# EAGLE library part CON04X2 (library Connectors)
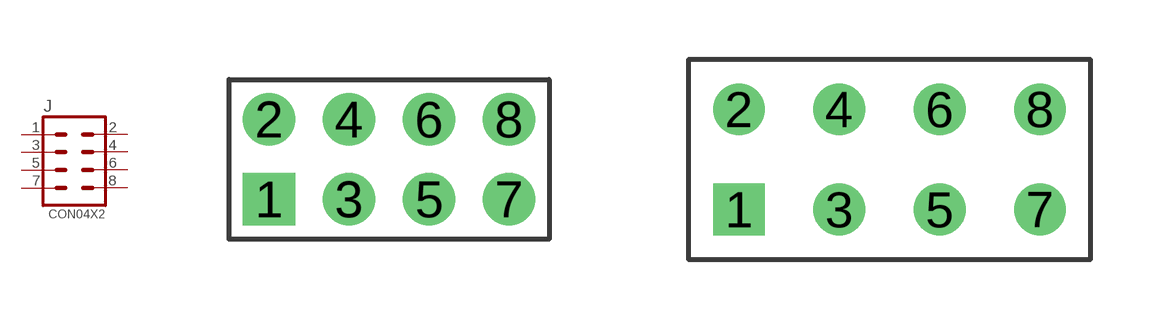
[diagram p1: symbol with the pads of CON04X2_PTH_2MM; footprints CON04X2_PTH_2MM, CON04X2_PTH]

Designator prefix J

## CON04X2PTH_2MM  [CON04X2_PTH_2MM]
1  1  pas
2  2  pas
3  3  pas
4  4  pas
5  5  pas
6  6  pas
7  7  pas
8  8  pas

## CON04X2PTH  [CON04X2_PTH]
Pads as for CON04X2_PTH_2MM

## CON04X2SOCKET_PTH  [SOCKET04X2]
Pads as for CON04X2_PTH_2MM

## CON04X2SOCKET_PTH_90  [SOCKET04X2_90]
Pads as for CON04X2_PTH_2MM

## Footprint CON04X2_PTH_2MM (pad centres in mm)
drill 0.8 square: 1 -3,-1
drill 0.8: 2 -3,1; 3 -1,-1; 4 -1,1; 5 1,-1; 6 1,1; 7 3,-1; 8 3,1

## Footprint CON04X2_PTH (pad centres in mm)
drill 0.8 square: 1 -3.81,-1.27
drill 0.8: 2 -3.81,1.27; 3 -1.27,-1.27; 4 -1.27,1.27; 5 1.27,-1.27; 6 1.27,1.27; 7 3.81,-1.27; 8 3.81,1.27

## Footprint SOCKET04X2 (pad centres in mm)
drill 0.8 square: 1 -3.81,-1.27
drill 0.8: 2 -3.81,1.27; 3 -1.27,-1.27; 4 -1.27,1.27; 5 1.27,-1.27; 6 1.27,1.27; 7 3.81,-1.27; 8 3.81,1.27

## Footprint SOCKET04X2_90 (pad centres in mm)
drill 0.8 square: 1 -3.81,-1.27
drill 0.8: 2 -3.81,1.27; 3 -1.27,-1.27; 4 -1.27,1.27; 5 1.27,-1.27; 6 1.27,1.27; 7 3.81,-1.27; 8 3.81,1.27